# EAGLE library part P82B96 (library Webmaster442)
Dual bidirectional bus buffer Datasheet: http://www.nxp.com/documents/data_sheet/P82B96.pdf
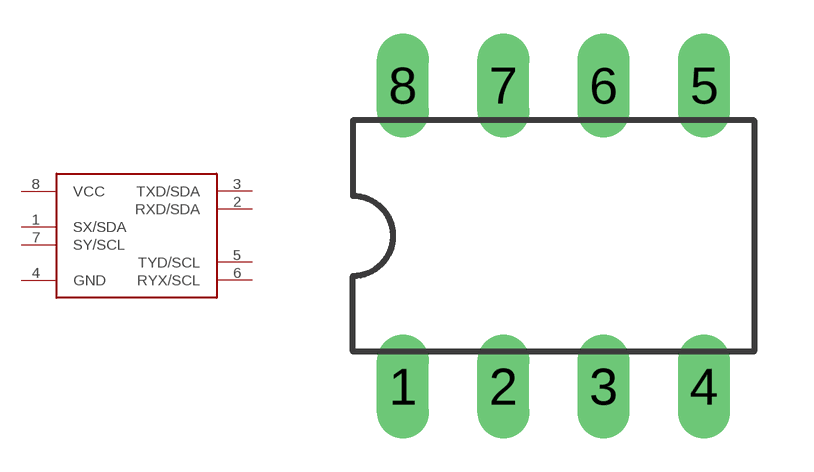
[diagram p20: symbol with the pads of DIL08; footprint DIL08]

Designator prefix -

## P82B96  [DIL08]
1  SX/SDA
2  RXD/SDA
3  TXD/SDA
4  GND
5  TYD/SCL
6  RYX/SCL
7  SY/SCL
8  VCC

## Footprint DIL08 (pad centres in mm)
Dual In Line Package
drill 0.813 long: 1 -3.81,-3.81; 2 -1.27,-3.81; 3 1.27,-3.81; 4 3.81,-3.81; 5 3.81,3.81; 6 1.27,3.81; 7 -1.27,3.81; 8 -3.81,3.81